# Altium schematic symbol library UMHVP.SchLib: 1 symbol
Pins are listed as number, name and electrical type; pins without a type are passive.

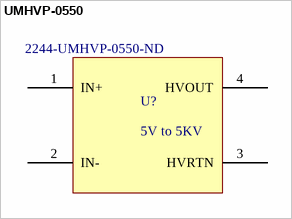
[diagram p0: symbol UMHVP-0550]

## UMHVP-0550
designator U?, comment 5V to 5KV  Supplier Part Number 1: 2244-UMHVP-0550-ND
High Voltage - Isolated Module DC DC Converter 1 Output 5000V 100µA 0V - 5V Input; Manufacturer: HVM Technology; Supplier 1: Digikey; Manufacturer Part Number: UMHVP-0550; RoHS: No; Description: UMHVP-0550; Stock 1: 33; Pricing 1: 1=297.04, 5=285.954, 10=281.298, 25=275.252 (USD); ComponentLink1Description: Datasheet; ComponentLink1URL: https://www.hvmtech.com/_files/ugd/714c33_6a533673dd4f44809ffb42aa98ec5247.pdf
footprint UMHVP-0550
pins: 1 IN+ (power) "DC decoupling capacitor", 2 IN- (power) "DC decoupling capacitor", 3 HVRTN (power) "DC decoupling capacitor", 4 HVOUT (power) "DC decoupling capacitor"